# Altium schematic symbol library Antenna.SCHLIB: 130 symbols (part 1 of 4)
Pins are listed as number, name and electrical type; pins without a type are passive.

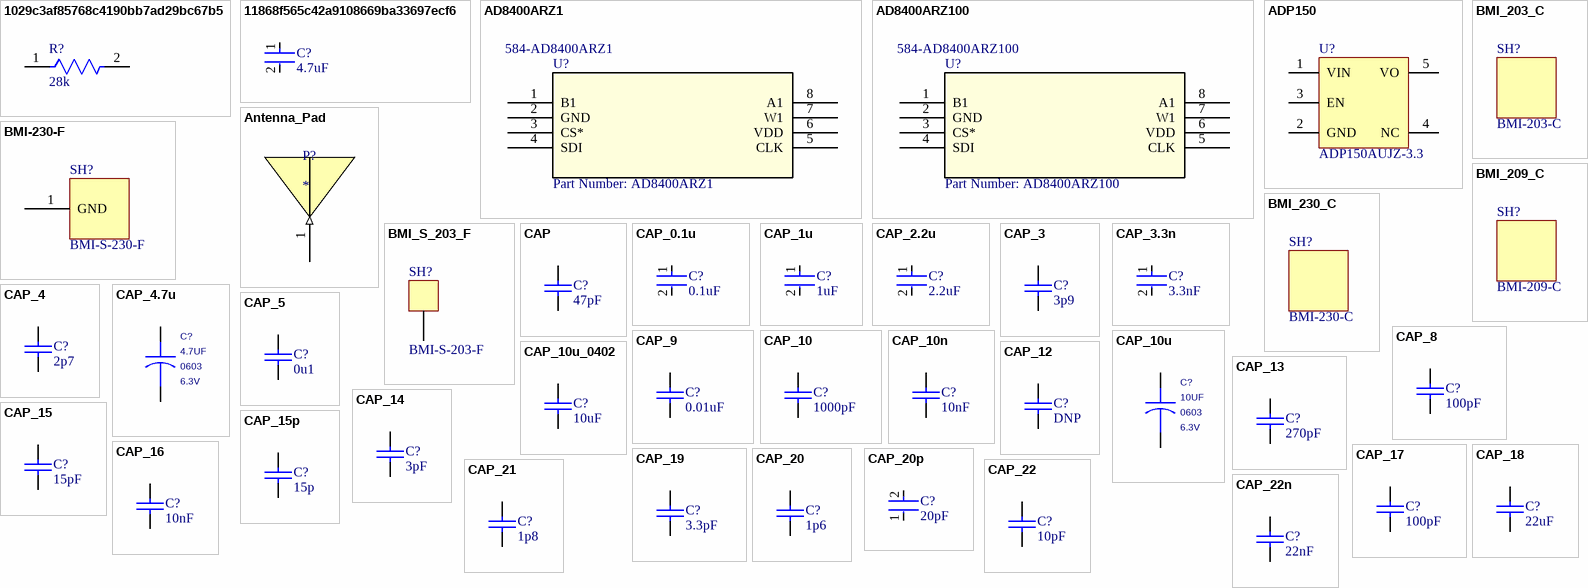
[diagram p0: symbols 1029c3af85768c4190bb7ad29bc67b5 to CAP_22n]

## 1029c3af85768c4190bb7ad29bc67b5
designator R?, comment 28k
RES SMD 28K OHM 1% 1/16W 0402; Manufacturer: Yageo; Manufacturer Part Number: AC0402FR-0728KL; Resistance: 28KΩ; Tolerance: 0.01; Voltage Rating: 50V; Power Rating: 0.0625W; Automotive Grade: Grade 0; Value: 28KΩ; Package: AC0402; RoHS: TRUE; Device Class L2: Resistors; ComponentLink2URL: http://www.yageo.com/documents/recent/PYu-AC_51_RoHS_L_6.pdf; Device Class L3: Chip SMD Resistors; Category: Res; Mouser Description: Res Thick Film 0402 28K Ohm 1% 0.063W(1/16W) ±100ppm/C Epoxy Pad SMD Automotive T/R; Digikey Description: RES SMD 28K OHM 1% 1/16W 0402; Automotive: Yes; Temperature Range High: +155°C; Lead Free: Yes; Composition: Thick Film; Temperature Range Low: -55°C; Footprint Url: http://www.yageo.com/exep/pages/download/literatures/PYu-R_Mount_10.pdf; Temperature: -55°C to +155°C; Series: AC; Ipc Land Pattern Name: RESC10050X32; ComponentLink2Description: Datasheet; Height: 0.37mm; Octopart: https://octopart.com/ac0402fr-0728kl-yageo-60760506; Device Class L1: Passive Components; Supplier 1: Mouser; Supplier Part Number 1: 603-AC0402FR-0728KL
footprint FP-AC0402-MFG
footprint FP-AC0402-IPC_C
footprint FP-AC0402-IPC_B
footprint FP-AC0402-IPC_A
footprint 0402_RES
pins: 1, 2

## 11868f565c42a9108669ba33697ecf6
designator C?, comment 4.7uF
Chip Multilayer Ceramic Capacitors for General Purpose, 0402, 4.7uF, X5R, 15%, 20%, 6.3V; Height: 0.5mm; Weight: 0.000212oz; Length: 1mm; Case Code (Metric): 1005; Packaging: Tape and Reel; Termination: SMD/SMT; Dielectric: X5R; Depth: 0.5mm; Case Code (Imperial): 0402; Min Operating Temperature: -55°C; Case/Package: 0402; Voltage: 6.3V; Width: 0.02inch; Capacitance: 4.7uF; Lead Free: Lead Free; Thickness: 0.022inch; Contact Plating: Tin; REACH SVHC: No SVHC; Package Quantity: 10000; Tolerance: 20%; Voltage Rating (DC): 6.3V; Voltage Rating: 6.3V; Mount: Surface Mount; Max Operating Temperature: 85°C; Supplier 1: Digi-Key; Supplier Part Number 1: 490-5915-1-ND
footprint FP-GRM155-0_1-IPC_B
footprint FP-GRM155-0_1-IPC_A
footprint FP-GRM155-0_1-IPC_C
footprint FP-GRM155-0_1-MFG
footprint 0402_cap
pins: 1, 2

## AD8400ARZ1
designator U?, comment Part Number: AD8400ARZ1  Supplier Part Number 1: 584-AD8400ARZ1
Digital Potentiometer 256POS 1kOhm Single 8-Pin SOIC N Tube; Manufacturer: Analog Devices; Vendor: Analog Devices Inc; Built_By: EMA_UL_Team; Memory Type: Volatile; Number of Positions: 256; Resistance: 1kR; Temperature Coefficient: 500ppm/°C; Quiescent Current: 10nA; Number of Circuits: 1; Max Supply Current: 900uA; Operating Supply Voltage: 5.5V; Tolerance: 1%; Min Supply Voltage: 2.7V; Interface: SPI; -3db Bandwidth: 5MHz; Manufacturer_Part_Number: AD8400ARZ1; Copyright: Copyright (C) 2018 Accelerated Designs. All rights reserved; RefDes: RefDes; Type: DEV; Value: Value; Manufacturer Part Number: AD8400ARZ1; RoHS: Yes; Category: Amplifiers - Op Amps, Buffer, Instrumentation; Stock 1: 4071; Pricing 1: 1=3.31000, 10=2.97500, 25=2.81240, 100=2.31250, 250=2.07500, 500=2.00000, 1000=1.68750 (USD); Mount: Surface Mount; Case/Package: SOIC; Number of Pins: 8; Contact Plating: Tin,Matte; Min Operating Temperature: -40°C; Max Operating Temperature: 125°C; Taper: Pseudo-Logarithmic; Number of Taps: 256; Operating Supply Current: 10nA; Number of Elements: 1; Max Supply Voltage: 5.5V; Packaging: Rail/Tube; Package Quantity: 98; Nominal Supply Current: 10nA; Length: 5mm; Height: 1.5mm; Width: 4mm; Radiation Hardening: No; Lead Free: Contains Lead; REACH SVHC: No SVHC; ComponentLink1URL: https://datasheet.ciiva.com/19454/1792679-19454749.pdf?src-supplier=Jameco; ComponentLink1Description: https://datasheet.ciiva.com/19454/1792679-19454749.pdf?src-supplier=Jameco; ComponentLink2URL: https://datasheet.ciiva.com/26801/ad8400arz1-26801995.pdf?src-supplier=IIIC; ComponentLink2Description: https://datasheet.ciiva.com/26801/ad8400arz1-26801995.pdf?src-supplier=IIIC; ComponentLink3URL: https://datasheet.ciiva.com/1146/85382-1146564.pdf?src-supplier=Element14; ComponentLink3Description: https://datasheet.ciiva.com/1146/85382-1146564.pdf?src-supplier=Element14; ComponentLink4URL: https://datasheet.ciiva.com/3045/ad8400-8402-8403-3045396.pdf?src-supplier=Avnet; ComponentLink4Description: https://datasheet.ciiva.com/3045/ad8400-8402-8403-3045396.pdf?src-supplier=Avnet; ComponentLink5URL: https://datasheet.ciiva.com/15145/getdatasheetpartid-75432-15145685.pdf?src-supplier=Verical; ComponentLink5Description: https://datasheet.ciiva.com/15145/getdatasheetpartid-75432-15145685.pdf?src-supplier=Verical; ComponentLink6URL: https://datasheet.ciiva.com/1145/661726-1145671.pdf?src-supplier=Element14; ComponentLink6Description: https://datasheet.ciiva.com/1145/661726-1145671.pdf?src-supplier=Element14; ComponentLink7URL: https://datasheet.ciiva.com/1330/ad8400-8402-8403-1330761.pdf?src-supplier=Digi-Key; ComponentLink7Description: https://datasheet.ciiva.com/1330/ad8400-8402-8403-1330761.pdf?src-supplier=Digi-Key; ComponentLink8URL: https://datasheet.ciiva.com/25918/ad8400-8402-8403-25918527.pdf?src-supplier=Avnet+Europe; ComponentLink8Description: https://datasheet.ciiva.com/25918/ad8400-8402-8403-25918527.pdf?src-supplier=Avnet+Europe; Supplier 1: Mouser
footprint R_8
footprint AD8400_ACTUAL
pins: 1 B1, 2 GND, 3 CS*, 4 SDI, 5 CLK, 6 VDD (power), 7 W1, 8 A1

## AD8400ARZ100
designator U?, comment Part Number: AD8400ARZ100  Supplier Part Number 1: 584-AD8400ARZ100
No Description Available; Vendor: Analog Devices Inc; Built_By: EMA_UL_Team; Manufacturer Part Number: AD8400ARZ100; Copyright: Copyright (C) 2018 Accelerated Designs. All rights reserved; RefDes: RefDes; Type: DEV; Value: Value; Supplier 1: Mouser
footprint R_8
footprint AD8400_ACTUAL
pins: 1 B1, 2 GND, 3 CS*, 4 SDI, 5 CLK, 6 VDD (power), 7 W1, 8 A1

## ADP150
designator U?, comment ADP150AUJZ-3.3
ANALOG DEVICES - ADP150AUJZ-3.3-R7 - LDO VOLTAGE REGULATOR, 3.3V, 150mA, TSOT-5, FULL REEL; Max Input Voltage: 5.5V; Min Input Voltage: 2.2V; Number of Outputs: 1; Output Type: Fixed; Polarity: Positive; Accuracy: 1%; Dropout Voltage: 105mV; Operating Supply Current: 10uA; Power Supply Rejection Ratio (PSRR): 70dB; Max Supply Current: 320uA; Min Current Limit: 190mA; Supplier 1: Digi-Key; Supplier Part Number 1: ADP150AUJZ-3.3-R7CT-ND; Manufacturer: Analog Devices; Manufacturer Part Number: ADP150AUJZ-3.3-R7; RoHS: Yes; Category: Voltage Regulators - Linear; Stock 1: 9998; Pricing 1: 1=1.06000, 10=0.94400, 25=0.89600, 100=0.68800, 250=0.60800, 500=0.57600, 1000=0.44800 (USD); Case/Package: TSOT; Number of Pins: 5; Min Operating Temperature: -40°C; Max Operating Temperature: 125°C; Max Output Current: 150mA; Output Voltage: 3.3V; Packaging: Tape and Reel; Nominal Output Voltage: 3.3V; Output Current: 150mA; Number of Regulators: 1; Quiescent Current: 10uA; Nominal Supply Current: 10uA; Output Voltage Accuracy: 1%; Length: 2.9mm; Height: 0.9mm; Width: 1.6mm; REACH SVHC: No SVHC; Lead Free: Contains Lead; ComponentLink1URL: https://datasheet.ciiva.com/2040/adp150-2040608.pdf?src-supplier=Digi-Key; ComponentLink1Description: https://datasheet.ciiva.com/2040/adp150-2040608.pdf?src-supplier=Digi-Key; ComponentLink2URL: https://datasheet.ciiva.com/2040/adp150-2040609.pdf?src-supplier=Digi-Key; ComponentLink2Description: https://datasheet.ciiva.com/2040/adp150-2040609.pdf?src-supplier=Digi-Key; ComponentLink3URL: https://datasheet.ciiva.com/3223/adp150-3223365.pdf?src-supplier=Avnet; ComponentLink3Description: https://datasheet.ciiva.com/3223/adp150-3223365.pdf?src-supplier=Avnet; ComponentLink4URL: https://datasheet.ciiva.com/17365/adp150-17365622.pdf?src-supplier=Avnet+Europe; ComponentLink4Description: https://datasheet.ciiva.com/17365/adp150-17365622.pdf?src-supplier=Avnet+Europe; ComponentLink5URL: https://datasheet.ciiva.com/2040/adp150-2040607.pdf?src-supplier=Digi-Key; ComponentLink5Description: https://datasheet.ciiva.com/2040/adp150-2040607.pdf?src-supplier=Digi-Key; ComponentLink6URL: https://datasheet.ciiva.com/7993/1780757-7993591.pdf?src-supplier=Element14; ComponentLink6Description: https://datasheet.ciiva.com/7993/1780757-7993591.pdf?src-supplier=Element14; ComponentLink7URL: https://datasheet.ciiva.com/3224/adp150-3224652.pdf?src-supplier=Avnet; ComponentLink7Description: https://datasheet.ciiva.com/3224/adp150-3224652.pdf?src-supplier=Avnet
footprint SOT23-5
pins: 1 VIN, 2 GND, 3 EN, 4 NC, 5 VO

## Antenna_Pad
designator P?  (no BOM)
footprint Antenna_Pad (Pad for Tape Measure antenna)
pins: 1 (in)

## BMI-230-F
designator SH?, comment BMI-S-230-F
Manufacturer Part Number: BMI-S-230-F-R; Supplier 1: Digi-Key; Supplier Part Number 1: 903-1470-1-ND
footprint BMI-204-F
footprint BMI-206-F
footprint BMI-230-F
pins: 1 GND

## BMI_203_C
designator SH?, comment BMI-203-C  (mechanical)
Manufacturer Part Number: BMI-S-203-C; Supplier 1: Digi-Key; Supplier Part Number 1: 903-1015-ND

## BMI_209_C
designator SH?, comment BMI-209-C  (mechanical)
Manufacturer Part Number: BMI-S-209-C; Supplier 1: Digi-Key; Supplier Part Number 1: 903-1185-ND

## BMI_230_C
designator SH?, comment BMI-230-C  (mechanical)
Manufacturer Part Number: BMI-S-206-C; Supplier 1: Digi-Key; Supplier Part Number 1: 903-1471-ND

## BMI_S_203_F
designator SH?, comment BMI-S-203-F
BOARD SHIELD 1.032X1.032" FRAME; Manufacturer: Laird; Supplier 1: Digi-Key; Manufacturer Part Number: BMI-S-203-F; RoHS: Yes; Category: Enclosures; Stock 1: 56808; Pricing 1: 1=2.39000, 10=2.14800, 25=2.02680, 100=1.72690 (USD); Mount: Solder; Material: Aluminium; Color: Grey; Package Quantity: 300; Packaging: Tape and Reel; Length: 1.032inch; Width: 26.21mm; Depth: 5.08mm; REACH SVHC: Unknown; ComponentLink1URL: https://datasheet.ciiva.com/2799/bmi-s-203-2799346.pdf?src-supplier=Digi-Key; ComponentLink1Description: https://datasheet.ciiva.com/2799/bmi-s-203-2799346.pdf?src-supplier=Digi-Key; Supplier Part Number 1: 903-1052-1-ND
footprint BMI-S-103
pins: 1

## CAP
designator C?, comment 47pF
TAIYO YUDEN - UMK105CG470JV-F - CERAMIC CAPACITOR 47PF 50V, C0G, 5%, 0402; Supplier 1: Digi-Key; Supplier Part Number 1: 587-1207-1-ND; Manufacturer: Taiyo Yuden; Manufacturer Part Number: UMK105CG470JV-F; RoHS: Yes; Category: Ceramic Capacitors; Stock 1: 26596; Pricing 1: 1=0.10000, 10=0.04200, 100=0.01860, 500=0.01328, 1000=0.01044, 2500=0.00949, 5000=0.00873 (USD); Mount: Surface Mount; Case/Package: 0402; Number of Pins: 2; Case Code (Metric): 1005; Case Code (Imperial): 0402; Min Operating Temperature: -55°C; Max Operating Temperature: 125°C; Dielectric: C0G; Capacitance: 47pF; Tolerance: 5%; Packaging: Tape and Reel; Voltage Rating (DC): 50V; Termination: SMD/SMT; Package Quantity: 1; Voltage Rating: 50V; Length: 1mm; Height: 0.5mm; Width: 0.02inch; Thickness: 0.022inch; Depth: 0.5mm; Radiation Hardening: No; Lead Free: Lead Free; Halogen Free: Halogen Free; REACH SVHC: Unknown; ComponentLink1URL: https://datasheet.ciiva.com/129/standardmultilayerceramiccaps-129737.pdf?src-supplier=Digi-Key; ComponentLink1Description: https://datasheet.ciiva.com/129/standardmultilayerceramiccaps-129737.pdf?src-supplier=Digi-Key; ComponentLink2URL: https://datasheet.ciiva.com/129/standardmultilayerceramiccaps-129735.pdf?src-supplier=Digi-Key; ComponentLink2Description: https://datasheet.ciiva.com/129/standardmultilayerceramiccaps-129735.pdf?src-supplier=Digi-Key; ComponentLink3URL: https://datasheet.ciiva.com/129/standardmultilayerceramiccaps-129736.pdf?src-supplier=Digi-Key; ComponentLink3Description: https://datasheet.ciiva.com/129/standardmultilayerceramiccaps-129736.pdf?src-supplier=Digi-Key; ComponentLink4URL: https://datasheet.ciiva.com/15922/dumk-e-15922569.pdf?src-supplier=Onlinecomponents.com; ComponentLink4Description: https://datasheet.ciiva.com/15922/dumk-e-15922569.pdf?src-supplier=Onlinecomponents.com
footprint C0402
pins: 1, 2
2 alternate drawings of the same symbol

## CAP_0.1u
designator C?, comment 0.1uF
CAP CER 0.1UF 10V X5R 0402; Manufacturer: Kemet; Manufacturer Part Number: C0402C104K8PACTU; Material: Ceramic; Capacitance: 0.10 μF; Temperature Coefficient: 15%; Tolerance: 0.1; Value: 0.10 μF; Package: C0402-BB; Temperature: -55°C to +125°C; ComponentLink2Description: Datasheet; Temperature Characteristic: X5R; Device Class L1: Passive Components; Height: 0.55mm; Lead Free: Yes; ComponentLink2URL: https://content.kemet.com/datasheets/KEM_C1002_X7R_SMD.pdf; Device Class L2: Capacitors; Temperature Range Low: -55°C; Temperature Range High: +125°C; RoHS: TRUE; Octopart: https://octopart.com/c0402c104k8pactu-kemet-140039; Automotive: No; Mouser Description: Capacitor 100 nF 10 VDC 0402; Category: Cap; Voltage Rating: 10 V; Digikey Description: CAP CER 0.1UF 10V X5R 0402; Ipc Land Pattern Name: CAPC10050X50; Device Class L3: Ceramic Capacitors; Supplier 1: Digi-Key; Supplier Part Number 1: 490-3261-1-ND
footprint FP-C0402-BB-MFG
footprint FP-C0402-BB-IPC_C
footprint FP-C0402-BB-IPC_B
footprint FP-C0402-BB-IPC_A
footprint 0402_cap
footprint 0402_cap
footprint 0402_CAP
pins: 1, 2

## CAP_1u
designator C?, comment 1uF
CAP CER 1UF 10V X5R 0402; Manufacturer Part Number: CC0402KRX5R5BB105; ComponentLink2Description: Datasheet; ComponentLink2URL: https://search.murata.co.jp/Ceramy/image/img/A01X/G101/ENG/GRM155R61A105KE15-01A.pdf; Supplier 1: Digi-Key; Supplier Part Number 1: 311-1438-1-ND
footprint FP-GRM15-0_1-MFG
footprint FP-GRM15-0_1-IPC_C
footprint FP-GRM15-0_1-IPC_B
footprint FP-GRM15-0_1-IPC_A
footprint 0402_cap
pins: 1, 2

## CAP_2.2u
designator C?, comment 2.2uF
Chip Multilayer Ceramic Capacitors for General Purpose, 0603, 2.2uF, X7R, 15%, 10%, 10V; Manufacturer Part Number: GRM188R71A225KE15D; Case Code (Metric): 1608; Height: 0.8mm; Packaging: Cut Tape; Voltage: 10V; Lead Free: Lead Free; Min Operating Temperature: -55°C; Voltage Rating (DC): 10V; Max Operating Temperature: 125°C; Voltage Rating: 10V; Dielectric: X7R; Depth: 0.8mm; Case Code (Imperial): 0603; Termination: SMD/SMT; Case/Package: 0603; Number of Pins: 2; REACH SVHC: No SVHC; Mount: Surface Mount; Width: 0.031inch; Material: Ceramic; Capacitance: 2.2uF; Package Quantity: 1; Weight: 7.1E-05oz; Length: 1.6mm; Thickness: 0.035inch; Tolerance: 10%; Supplier 1: Digi-Key; Supplier Part Number 1: 490-4520-1-ND
footprint FP-GRM188-0_1-e0_2_0_5-MFG
footprint FP-GRM188-0_1-e0_2_0_5-IPC_B
footprint FP-GRM188-0_1-e0_2_0_5-IPC_A
footprint FP-GRM188-0_1-e0_2_0_5-IPC_C
footprint 0402_cap
footprint 0603_cap
pins: 1, 2

## CAP_3
designator C?, comment 3p9
CAP CER 3.9PF 50V C0H 0402; Manufacturer: Taiyo Yuden; Manufacturer Part Number: UVK105CH3R9JW-F; Dielectric Material: Ceramic; Tolerance: 5%; Supplier 1: Digi-Key; Supplier Part Number 1: 587-1021-1-ND; RoHS: Yes; Category: Ceramic Capacitors; Stock 1: 9960; Pricing 1: 1=0.21000, 10=0.14200, 100=0.07210, 500=0.04934, 1000=0.04364, 2500=0.04174, 5000=0.03795 (USD); Mount: Surface Mount; Case/Package: 0402; Number of Pins: 2; Case Code (Metric): 1005; Case Code (Imperial): 0402; Contact Plating: Tin; Min Operating Temperature: -55°C; Max Operating Temperature: 125°C; Voltage Rating: 50V; Capacitance: 3.9pF; Packaging: Tape and Reel; Package Quantity: 1; Voltage Rating (DC): 50V; Dielectric: C0H; Termination: SMD/SMT; Composition: Ceramic; Length: 1mm; Height: 0.5mm; Width: 0.02inch; Thickness: 0.022inch; Depth: 0.5mm; Radiation Hardening: No; REACH SVHC: Unknown; Lead Free: Lead Free; Halogen Free: Halogen Free; ComponentLink1URL: https://datasheet.ciiva.com/11597/uvk105ch3r9jw-f-ss-11597603.pdf?src-supplier=Avnet; ComponentLink1Description: https://datasheet.ciiva.com/11597/uvk105ch3r9jw-f-ss-11597603.pdf?src-supplier=Avnet; ComponentLink2URL: https://datasheet.ciiva.com/134/uvk105ch3r9jw-f-ss-134635.pdf?src-supplier=Digi-Key; ComponentLink2Description: https://datasheet.ciiva.com/134/uvk105ch3r9jw-f-ss-134635.pdf?src-supplier=Digi-Key; ComponentLink3URL: https://datasheet.ciiva.com/30211/206uvk105ch3r9jw-f-30211801.pdf?src-supplier=Onlinecomponents.com; ComponentLink3Description: https://datasheet.ciiva.com/30211/206uvk105ch3r9jw-f-30211801.pdf?src-supplier=Onlinecomponents.com; ComponentLink4URL: https://datasheet.ciiva.com/7975/746258-7975913.pdf?src-supplier=Element14; ComponentLink4Description: https://datasheet.ciiva.com/7975/746258-7975913.pdf?src-supplier=Element14; ComponentLink5URL: https://datasheet.ciiva.com/5424/mlcc-all-e-541559-5424603.pdf?src-supplier=Mouser; ComponentLink5Description: https://datasheet.ciiva.com/5424/mlcc-all-e-541559-5424603.pdf?src-supplier=Mouser; ComponentLink6URL: https://datasheet.ciiva.com/134/mlcc04-e-134636.pdf?src-supplier=Digi-Key; ComponentLink6Description: https://datasheet.ciiva.com/134/mlcc04-e-134636.pdf?src-supplier=Digi-Key; ComponentLink7URL: https://datasheet.ciiva.com/134/mlcc04-e-134637.pdf?src-supplier=Digi-Key; ComponentLink7Description: https://datasheet.ciiva.com/134/mlcc04-e-134637.pdf?src-supplier=Digi-Key
footprint C0402
pins: 1, 2
2 alternate drawings of the same symbol

## CAP_3.3n
designator C?, comment 3.3nF
CAP CER 0.027UF 10V X5R 0402; Manufacturer Part Number: GRM1885C1H332JA01D; ComponentLink2Description: Datasheet; ComponentLink2URL: https://content.kemet.com/datasheets/KEM_C1002_X7R_SMD.pdf; Supplier 1: Newark; Supplier Part Number 1: 45Y5231
footprint FP-C0402-BB-MFG
footprint FP-C0402-BB-IPC_C
footprint FP-C0402-BB-IPC_B
footprint FP-C0402-BB-IPC_A
footprint C0402C273K8PACTU
footprint 0603_cap
pins: 1, 2

## CAP_4
designator C?, comment 2p7
Multilayer Ceramic Capacitors MLCC - SMD/SMT 2.7pF 50V C0H +/-5f 0402 HiFreq; Manufacturer: Taiyo Yuden; Manufacturer Part Number: UVK105CH2R7JW-F; Tolerance: 5%; Supplier 1: Digi-Key; Supplier Part Number 1: 587-1017-1-ND; RoHS: Yes; Category: Ceramic Capacitors; Stock 1: 39317; Pricing 1: 1=0.21000, 10=0.14200, 100=0.07210, 500=0.04934, 1000=0.04364, 2500=0.04174, 5000=0.03795 (USD); Mount: Surface Mount; Case/Package: 0402; Number of Pins: 2; Case Code (Metric): 1005; Case Code (Imperial): 0402; Dielectric Material: Ceramic; Min Operating Temperature: -55°C; Max Operating Temperature: 125°C; Dielectric: C0H; Capacitance: 2.7pF; Package Quantity: 1; Voltage Rating: 50V; Packaging: Tape and Reel; Voltage Rating (DC): 50V; Termination: SMD/SMT; Composition: Ceramic; Length: 1mm; Height: 0.5mm; Width: 0.02inch; Thickness: 0.022inch; Depth: 0.5mm; Radiation Hardening: No; Lead Free: Lead Free; Halogen Free: Halogen Free; REACH SVHC: Unknown; ComponentLink1URL: https://datasheet.ciiva.com/134/uvk105ch2r7jw-f-ss-134626.pdf?src-supplier=Digi-Key; ComponentLink1Description: https://datasheet.ciiva.com/134/uvk105ch2r7jw-f-ss-134626.pdf?src-supplier=Digi-Key; ComponentLink2URL: https://datasheet.ciiva.com/134/mlcc04-e-134627.pdf?src-supplier=Digi-Key; ComponentLink2Description: https://datasheet.ciiva.com/134/mlcc04-e-134627.pdf?src-supplier=Digi-Key; ComponentLink3URL: https://datasheet.ciiva.com/134/mlcc04-e-134628.pdf?src-supplier=Digi-Key; ComponentLink3Description: https://datasheet.ciiva.com/134/mlcc04-e-134628.pdf?src-supplier=Digi-Key; ComponentLink4URL: https://datasheet.ciiva.com/7975/746258-7975912.pdf?src-supplier=Element14; ComponentLink4Description: https://datasheet.ciiva.com/7975/746258-7975912.pdf?src-supplier=Element14; ComponentLink5URL: https://datasheet.ciiva.com/5412/mlcc-all-e-541559-5412284.pdf?src-supplier=Mouser; ComponentLink5Description: https://datasheet.ciiva.com/5412/mlcc-all-e-541559-5412284.pdf?src-supplier=Mouser
footprint C0402
pins: 1, 2
2 alternate drawings of the same symbol

## CAP_4.7u
designator C?, comment 4.7UF  Attr: 6.3V  Package: 0603
CAP,CER,4.7UF,6.3V,X5R,20%,0603; Manufacturer Part Number: JMK107BJ475MA-T; Mfg: TAIYO YUDEN; Part Number: 725-47-534; Supplier 1: Digi-Key; Supplier Part Number 1: 587-1255-1-ND
footprint C0603
footprint C0603
pins: 1, 2

## CAP_5
designator C?, comment 0u1
TAIYO YUDEN - EMK105B7104KV-F - SMD Multilayer Ceramic Capacitor, 0.1 µF, 16 V, 0402 [1005 Metric], ± 10%, X7R, M Series; Capacitance: 100nF; Voltage Rating (DC): 16V; Supplier 1: Future Electronics; Supplier Part Number 1: EMK105B7104KV-F-CUTT; Manufacturer: Taiyo Yuden; Manufacturer Part Number: EMK105B7104KV-F; RoHS: Yes; Category: Ceramic Capacitors; Stock 1: 2305000; Pricing 1: 1=0.09800, 500=0.01390, 1500=0.00980, 2500=0.00830, 5000=0.00670 (USD); Mount: Surface Mount; Case/Package: 0402; Number of Pins: 2; Case Code (Metric): 1005; Case Code (Imperial): 0402; Min Operating Temperature: -55°C; Max Operating Temperature: 125°C; Tolerance: 10%; Packaging: Tape and Reel; Dielectric: X7R; Package Quantity: 1; Voltage Rating: 16V; Termination: SMD/SMT; Composition: Ceramic; Length: 1mm; Height: 0.5mm; Width: 0.02inch; Thickness: 0.022inch; Depth: 0.5mm; Radiation Hardening: No; Halogen Free: Halogen Free; REACH SVHC: Unknown; Lead Free: Lead Free; ComponentLink1URL: https://datasheet.ciiva.com/129/emk105b7104kv-f-ss-129714.pdf?src-supplier=Digi-Key; ComponentLink1Description: https://datasheet.ciiva.com/129/emk105b7104kv-f-ss-129714.pdf?src-supplier=Digi-Key; ComponentLink2URL: https://datasheet.ciiva.com/30227/emk105b7104kv-f-30227394.pdf?src-supplier=Onlinecomponents.com; ComponentLink2Description: https://datasheet.ciiva.com/30227/emk105b7104kv-f-30227394.pdf?src-supplier=Onlinecomponents.com; ComponentLink3URL: https://datasheet.ciiva.com/22748/746258-22748959.pdf?src-supplier=Element14; ComponentLink3Description: https://datasheet.ciiva.com/22748/746258-22748959.pdf?src-supplier=Element14
footprint C0402
pins: 1, 2
2 alternate drawings of the same symbol

## CAP_8
designator C?, comment 100pF
MURATA - GCM1555C1H101JA16D - SMD Multilayer Ceramic Capacitor, 100 pF, 50 V, 0402 [1005 Metric], ± 5%, C0G / NP0, GCM Series - SMD Multilayer Ceramic Capacitor, 100 pF, 50 V, 0402 [1005 Metric], ± 5%, C0G / NP0, GCM Series; Voltage Rating: 50V; Supplier 1: Digi-Key; Supplier Part Number 1: 490-10669-1-ND; Manufacturer: Murata; Manufacturer Part Number: GCM1555C1H101JA16D; RoHS: Yes; Category: Ceramic Capacitors; Stock 1: 1663126; Pricing 1: 1=0.10000, 10=0.06200, 100=0.02770, 500=0.01978, 1000=0.01553, 2500=0.01412, 5000=0.01299 (USD); Mount: Surface Mount; Case/Package: 0402; Weight: 0.000212oz; Case Code (Metric): 1005; Case Code (Imperial): 0402; Min Operating Temperature: -55°C; Max Operating Temperature: 125°C; Tolerance: 5%; Capacitance: 100pF; Packaging: Tape and Reel; Dielectric: C0G; Voltage: 50V; Termination: SMD/SMT; Voltage Rating (DC): 50V; Package Quantity: 10000; Length: 1mm; Height: 0.5mm; Width: 0.02inch; Thickness: 0.022inch; Depth: 0.5mm; Ratings: AEC-Q200; Radiation Hardening: No; REACH SVHC: No SVHC; Lead Free: Lead Free; ComponentLink1URL: https://datasheet.ciiva.com/26889/getdatasheetpartid-748988-26889122.pdf?src-supplier=Verical; ComponentLink1Description: https://datasheet.ciiva.com/26889/getdatasheetpartid-748988-26889122.pdf?src-supplier=Verical
footprint C0402
pins: 1, 2
2 alternate drawings of the same symbol

## CAP_9
designator C?, comment 0.01uF
Cap Ceramic 0.01uF 50V X7R 10% SMD 0402 125C Paper T/R; Manufacturer: Murata; Manufacturer Part Number: GCM155R71H103KA55D; Capacitance: 10nF; Supplier 1: Digi-Key; Supplier Part Number 1: 490-4762-1-ND; RoHS: Yes; Category: Ceramic Capacitors; Stock 1: 21462435; Pricing 1: 1=0.10000, 10=0.04400, 100=0.01980, 500=0.01412, 1000=0.01109, 2500=0.01008, 5000=0.00927 (USD); Mount: Surface Mount; Case/Package: 0402; Case Code (Imperial): 0402; Case Code (Metric): 1005; Min Operating Temperature: -55°C; Max Operating Temperature: 125°C; Tolerance: 10%; Dielectric: X7R; Voltage Rating: 50V; Packaging: Tape and Reel; Package Quantity: 1; Termination: SMD/SMT; Voltage: 50V; Voltage Rating (DC): 50V; Length: 1mm; Height: 0.5mm; Width: 0.02inch; Thickness: 0.022inch; Depth: 0.5mm; Ratings: AEC-Q200; Radiation Hardening: No; REACH SVHC: No SVHC; Lead Free: Lead Free; ComponentLink1URL: https://datasheet.ciiva.com/16199/product-16199584.pdf?src-supplier=Future+Electronics; ComponentLink1Description: https://datasheet.ciiva.com/16199/product-16199584.pdf?src-supplier=Future+Electronics; ComponentLink2URL: https://datasheet.ciiva.com/18100/getdatasheetpartid-27433-18100656.pdf?src-supplier=Verical; ComponentLink2Description: https://datasheet.ciiva.com/18100/getdatasheetpartid-27433-18100656.pdf?src-supplier=Verical; ComponentLink3URL: https://datasheet.ciiva.com/130/product-130682.pdf?src-supplier=Digi-Key; ComponentLink3Description: https://datasheet.ciiva.com/130/product-130682.pdf?src-supplier=Digi-Key; ComponentLink4URL: https://datasheet.ciiva.com/11787/0900766b80ef92d0-11787082.pdf?src-supplier=RSComponents; ComponentLink4Description: https://datasheet.ciiva.com/11787/0900766b80ef92d0-11787082.pdf?src-supplier=RSComponents; ComponentLink5URL: https://datasheet.ciiva.com/130/product-130683.pdf?src-supplier=Digi-Key; ComponentLink5Description: https://datasheet.ciiva.com/130/product-130683.pdf?src-supplier=Digi-Key; ComponentLink6URL: https://datasheet.ciiva.com/130/product-130684.pdf?src-supplier=Digi-Key; ComponentLink6Description: https://datasheet.ciiva.com/130/product-130684.pdf?src-supplier=Digi-Key; ComponentLink7URL: https://datasheet.ciiva.com/2989/product-2989235.pdf?src-supplier=Avnet; ComponentLink7Description: https://datasheet.ciiva.com/2989/product-2989235.pdf?src-supplier=Avnet; ComponentLink8URL: https://datasheet.ciiva.com/16624/product-16624550.pdf?src-supplier=Avnet+Europe; ComponentLink8Description: https://datasheet.ciiva.com/16624/product-16624550.pdf?src-supplier=Avnet+Europe
footprint C0402
pins: 1, 2
2 alternate drawings of the same symbol

## CAP_10
designator C?, comment 1000pF
CAP CER 1000PF 50V C0G/NP0 0402; Manufacturer: Murata; Manufacturer Part Number: GCM1555C1H102JA16J; Capacitance: 1nF; Tolerance: 5%; Supplier 1: Mouser; Supplier Part Number 1: 81-GCM1555C1H102JA6J; RoHS: No; Category: Ceramic Capacitors; Stock 1: 1197797; Pricing 1: 1=0.10000, 10=0.07700, 100=0.03300, 500=0.02400, 1000=0.01900, 2500=0.01700 (USD); Mount: Surface Mount; Case/Package: 0402; Min Operating Temperature: -55°C; Max Operating Temperature: 125°C; Packaging: Tape and Reel; Voltage Rating: 50V; Ratings: AEC-Q200; ComponentLink1URL: http://search.murata.co.jp/Ceramy/image/img/A01X/G101/ENG/GCM1555C1H102JA16-01.pdf?src-supplier=Digi-Key; ComponentLink1Description: http://search.murata.co.jp/Ceramy/image/img/A01X/G101/ENG/GCM1555C1H102JA16-01.pdf?src-supplier=Digi-Key
footprint C0402
pins: 1, 2
2 alternate drawings of the same symbol

## CAP_10n
designator C?, comment 10nF
TAIYO YUDEN   EMK105B7103KV-F   CERAMIC CAPACITOR, 0.01UF, 16V, X7R, 10%, 0402, FULL REEL; Supplier 1: Digi-Key; Supplier Part Number 1: 587-2708-1-ND; Manufacturer: Taiyo Yuden; Manufacturer Part Number: EMK105B7103KV-F; RoHS: Yes; Category: Ceramic Capacitors; Stock 1: 251774; Pricing 1: 1=0.10000, 10=0.02800, 100=0.01240, 500=0.00886, 1000=0.00696, 2500=0.00632, 5000=0.00582 (USD); Mount: Surface Mount; Case/Package: 0402; Number of Pins: 2; Case Code (Metric): 1005; Case Code (Imperial): 0402; Contact Plating: Tin; Min Operating Temperature: -55°C; Max Operating Temperature: 125°C; Package Quantity: 1; Capacitance: 10nF; Voltage Rating: 16V; Tolerance: 10%; Packaging: Tape and Reel; Voltage Rating (DC): 16V; Termination: SMD/SMT; Composition: Ceramic; Dielectric: X7R; Length: 1mm; Height: 0.5mm; Width: 0.02inch; Thickness: 0.022inch; Depth: 0.5mm; Radiation Hardening: No; REACH SVHC: Unknown; ComponentLink1URL: https://datasheet.ciiva.com/156/mlcc-all-e-156079.pdf?src-supplier=Digi-Key; ComponentLink1Description: https://datasheet.ciiva.com/156/mlcc-all-e-156079.pdf?src-supplier=Digi-Key; ComponentLink2URL: https://datasheet.ciiva.com/28644/746258-28644943.pdf?src-supplier=Element14; ComponentLink2Description: https://datasheet.ciiva.com/28644/746258-28644943.pdf?src-supplier=Element14; ComponentLink3URL: https://datasheet.ciiva.com/156/mlcc-all-e-156080.pdf?src-supplier=Digi-Key; ComponentLink3Description: https://datasheet.ciiva.com/156/mlcc-all-e-156080.pdf?src-supplier=Digi-Key; ComponentLink4URL: https://datasheet.ciiva.com/11596/mlcc01-e-11596553.pdf?src-supplier=Avnet; ComponentLink4Description: https://datasheet.ciiva.com/11596/mlcc01-e-11596553.pdf?src-supplier=Avnet; ComponentLink5URL: https://datasheet.ciiva.com/7975/1481447-7975594.pdf?src-supplier=Element14; ComponentLink5Description: https://datasheet.ciiva.com/7975/1481447-7975594.pdf?src-supplier=Element14; ComponentLink6URL: https://datasheet.ciiva.com/156/mlcc-all-e-156078.pdf?src-supplier=Digi-Key; ComponentLink6Description: https://datasheet.ciiva.com/156/mlcc-all-e-156078.pdf?src-supplier=Digi-Key
footprint C0402
pins: 1, 2
2 alternate drawings of the same symbol

## CAP_10u
designator C?, comment 10UF  Attr: 6.3V  Package: 0603
CAP,CER,MONO,10UF,20%,6.3V,0603; Manufacturer Part Number: GRM188R60J106ME47D; Part Number: 725-10-604; Supplier 1: Digi-Key; Supplier Part Number 1: 490-3896-1-ND
footprint C0603
footprint C0603
pins: 1, 2

## CAP_10u_0402
designator C?, comment 10uF
CAP CER 10UF 6.3V X5R 0402; Manufacturer: Murata; Manufacturer Part Number: GRM155R60J106ME15D; Tolerance: 20%; RoHS: Yes; Category: Ceramic Capacitors; Stock 1: 537975; Pricing 1: 1=0.25000, 10=0.17300, 100=0.08750, 500=0.05986, 1000=0.05295, 2500=0.05065, 5000=0.04605 (USD); Mount: Surface Mount; Case/Package: 0402; Case Code (Metric): 1005; Case Code (Imperial): 0402; Min Operating Temperature: -55°C; Max Operating Temperature: 85°C; Packaging: Tape and Reel; Capacitance: 10uF; Voltage Rating: 6.3V; Voltage Rating (DC): 6.3V; Dielectric: X5R; Length: 0.039inch; Width: 0.02inch; Thickness: 0.026inch; ComponentLink1URL: https://www.murata.com/~/media/webrenewal/support/library/catalog/products/capacitor/mlcc/c02e.ashx?la=en-us&src-supplier=Digi-Key; ComponentLink1Description: https://www.murata.com/~/media/webrenewal/support/library/catalog/products/capacitor/mlcc/c02e.ashx?la=en-us&src-supplier=Digi-Key; Stock 2: 1631784; Pricing 2: 1=0.25000, 10=0.17300, 100=0.08750, 500=0.05986, 1000=0.05295, 2500=0.05065, 5000=0.04605 (USD); Supplier 1: RSComponents; Supplier Part Number 1: 8467274
footprint C0402
footprint MURA-GRM155R60J106ME44D-2_N (Chip Capacitor, 2-Leads, Body 1.2x0.52mm, IPC Medium Density)
footprint MURA-GRM155R60J106ME44D-2_N (Chip Capacitor, 2-Leads, Body 1.2x0.52mm, IPC Medium Density)
footprint 0402_CAP
pins: 1, 2
2 alternate drawings of the same symbol

## CAP_12
designator C?, comment DNP
Not Normally Populated - use 0402 pads
footprint C0402
pins: 1, 2
2 alternate drawings of the same symbol

## CAP_13
designator C?, comment 270pF
Ceramic capacitor SMD 0402 270 pF 50 V 5 %; Manufacturer: Murata; Manufacturer Part Number: GRM1555C1H271JA01D; Tolerance: 5%; Dielectric: C0G; Voltage Rating: 50V; Temperature Coefficient: 30ppm/°C; Insulation Resistance: 10GR; Supplier 1: Digi-Key; Supplier Part Number 1: 490-1294-6-ND; RoHS: Yes; Category: Ceramic Capacitors; Stock 1: 309230; Pricing 1: 1=0.12000, 10=0.08200, 100=0.03850, 500=0.02700, 1000=0.02236, 2500=0.02081, 5000=0.01904 (USD); Mount: Surface Mount; Case/Package: 0402; Case Code (Metric): 1005; Case Code (Imperial): 0402; Material: Ceramic; Min Operating Temperature: -55°C; Max Operating Temperature: 125°C; Capacitance: 270pF; Packaging: Tape and Reel; Package Quantity: 1; Voltage Rating (DC): 50V; Termination: SMD/SMT; Voltage: 50V; Length: 1mm; Height: 0.5mm; Width: 0.02inch; Thickness: 0.022inch; Depth: 0.5mm; Radiation Hardening: No; REACH SVHC: No SVHC; Lead Free: Lead Free; ComponentLink1URL: https://datasheet.ciiva.com/19476/1856020-19476242.pdf?src-supplier=Jameco; ComponentLink1Description: https://datasheet.ciiva.com/19476/1856020-19476242.pdf?src-supplier=Jameco; ComponentLink2URL: https://datasheet.ciiva.com/18184/getdatasheetpartid-153032-18184285.pdf?src-supplier=Verical; ComponentLink2Description: https://datasheet.ciiva.com/18184/getdatasheetpartid-153032-18184285.pdf?src-supplier=Verical; ComponentLink3URL: https://datasheet.ciiva.com/29200/453739-da-01-en-vs-kondensator-0402-29200063.pdf?src-supplier=Conrad; ComponentLink3Description: https://datasheet.ciiva.com/29200/453739-da-01-en-vs-kondensator-0402-29200063.pdf?src-supplier=Conrad; ComponentLink4URL: https://datasheet.ciiva.com/2989/product-2989315.pdf?src-supplier=Avnet; ComponentLink4Description: https://datasheet.ciiva.com/2989/product-2989315.pdf?src-supplier=Avnet; ComponentLink5URL: https://datasheet.ciiva.com/14116/grmseries-tc-hitype-eng-14116869.pdf?src-supplier=Distrelec; ComponentLink5Description: https://datasheet.ciiva.com/14116/grmseries-tc-hitype-eng-14116869.pdf?src-supplier=Distrelec; ComponentLink6URL: https://datasheet.ciiva.com/131/partnumbering-e-01-131786.pdf?src-supplier=Digi-Key; ComponentLink6Description: https://datasheet.ciiva.com/131/partnumbering-e-01-131786.pdf?src-supplier=Digi-Key; ComponentLink7URL: https://datasheet.ciiva.com/16200/product-16200506.pdf?src-supplier=Future+Electronics; ComponentLink7Description: https://datasheet.ciiva.com/16200/product-16200506.pdf?src-supplier=Future+Electronics; ComponentLink8URL: https://datasheet.ciiva.com/131/partnumbering-e-01-131787.pdf?src-supplier=Digi-Key; ComponentLink8Description: https://datasheet.ciiva.com/131/partnumbering-e-01-131787.pdf?src-supplier=Digi-Key; ComponentLink9URL: https://datasheet.ciiva.com/131/partnumbering-e-01-131788.pdf?src-supplier=Digi-Key; ComponentLink9Description: https://datasheet.ciiva.com/131/partnumbering-e-01-131788.pdf?src-supplier=Digi-Key
footprint C0402
pins: 1, 2
2 alternate drawings of the same symbol

## CAP_14
designator C?, comment 3pF
CAP CER 3PF 50V C0G/NP0 0402; Manufacturer: Murata; Manufacturer Part Number: GJM1555C1H3R0WB01D; Dielectric: C0G; Supplier 1: Digi-Key; Supplier Part Number 1: 490-11211-1-ND; RoHS: Yes; Category: Ceramic Capacitors; Stock 1: 94805; Pricing 1: 1=0.30000, 10=0.20500, 100=0.11610, 500=0.08198, 1000=0.07173, 2500=0.06831, 5000=0.06319 (USD); Mount: Surface Mount; Case/Package: 0402; Case Code (Imperial): 0402; Case Code (Metric): 1005; Min Operating Temperature: -55°C; Max Operating Temperature: 125°C; Capacitance: 3pF; Package Quantity: 10000; Packaging: Tape and Reel; Voltage Rating: 50V; Voltage Rating (DC): 50V; Termination: SMD/SMT; Length: 1mm; Height: 0.5mm; Width: 0.5mm; Thickness: 0.022inch; Depth: 0.5mm; Radiation Hardening: No; ComponentLink1URL: http://www.mouser.com/ds/2/281/c02e-2905.pdf?src-supplier=Mouser; ComponentLink1Description: http://www.mouser.com/ds/2/281/c02e-2905.pdf?src-supplier=Mouser; ComponentLink2URL: http://search.murata.co.jp/Ceramy/image/img/PDF/ENG/GJM1555C1H3R0WB01.pdf?src-supplier=Avnet; ComponentLink2Description: http://search.murata.co.jp/Ceramy/image/img/PDF/ENG/GJM1555C1H3R0WB01.pdf?src-supplier=Avnet; ComponentLink3URL: http://components.arrow.com/part/dataview/46522145S277297N2606?src-supplier=Arrow; ComponentLink3Description: http://components.arrow.com/part/dataview/46522145S277297N2606?src-supplier=Arrow; ComponentLink4URL: http://search.murata.co.jp/Ceramy/image/img/A01X/G101/ENG/GJM1555C1H3R0WB01-01.pdf?src-supplier=Digi-Key; ComponentLink4Description: http://search.murata.co.jp/Ceramy/image/img/A01X/G101/ENG/GJM1555C1H3R0WB01-01.pdf?src-supplier=Digi-Key; ComponentLink5URL: http://search.murata.co.jp/Ceramy/image/img/A01X/partnumbering_e_01.pdf?src-supplier=Digi-Key; ComponentLink5Description: http://search.murata.co.jp/Ceramy/image/img/A01X/partnumbering_e_01.pdf?src-supplier=Digi-Key
footprint C0402
pins: 1, 2
2 alternate drawings of the same symbol

## CAP_15
designator C?, comment 15pF
Cap Ceramic 15pF 50V C0G 5% SMD 0402 125C Paper T/R; Manufacturer: Murata; Manufacturer Part Number: GJM1555C1H150JB01D; Temperature Coefficient: 30ppm/°C; Supplier 1: Digi-Key; Supplier Part Number 1: 490-3117-1-ND; RoHS: Yes; Category: Ceramic Capacitors; Stock 1: 349444; Pricing 1: 1=0.29000, 10=0.19700, 100=0.10000, 500=0.06842, 1000=0.06052, 2500=0.05789, 5000=0.05262 (USD); Mount: Surface Mount; Case/Package: 0402; Number of Pins: 2; Case Code (Imperial): 0402; Case Code (Metric): 1005; Min Operating Temperature: -55°C; Max Operating Temperature: 125°C; Capacitance: 15pF; Tolerance: 5%; Dielectric: C0G; Packaging: Tape and Reel; Package Quantity: 1; Voltage Rating: 50V; Termination: SMD/SMT; Voltage: 50V; Voltage Rating (DC): 50V; Length: 1mm; Height: 0.5mm; Width: 0.02inch; Thickness: 0.022inch; Depth: 0.5mm; Lead Pitch: 0.3mm; Radiation Hardening: No; REACH SVHC: No SVHC; Lead Free: Lead Free; ComponentLink1URL: https://datasheet.ciiva.com/18183/getdatasheetpartid-255169-18183809.pdf?src-supplier=Verical; ComponentLink1Description: https://datasheet.ciiva.com/18183/getdatasheetpartid-255169-18183809.pdf?src-supplier=Verical; ComponentLink2URL: https://datasheet.ciiva.com/132/product-132373.pdf?src-supplier=Digi-Key; ComponentLink2Description: https://datasheet.ciiva.com/132/product-132373.pdf?src-supplier=Digi-Key; ComponentLink3URL: https://datasheet.ciiva.com/5694/1700182-5694965.pdf?src-supplier=Farnell; ComponentLink3Description: https://datasheet.ciiva.com/5694/1700182-5694965.pdf?src-supplier=Farnell; ComponentLink4URL: https://datasheet.ciiva.com/132/partnumbering-e-01-132374.pdf?src-supplier=Digi-Key; ComponentLink4Description: https://datasheet.ciiva.com/132/partnumbering-e-01-132374.pdf?src-supplier=Digi-Key; ComponentLink5URL: https://datasheet.ciiva.com/132/partnumbering-e-01-132375.pdf?src-supplier=Digi-Key; ComponentLink5Description: https://datasheet.ciiva.com/132/partnumbering-e-01-132375.pdf?src-supplier=Digi-Key; ComponentLink6URL: https://datasheet.ciiva.com/16426/l0005e-16426759.pdf?src-supplier=Future+Electronics; ComponentLink6Description: https://datasheet.ciiva.com/16426/l0005e-16426759.pdf?src-supplier=Future+Electronics; ComponentLink7URL: https://datasheet.ciiva.com/17453/product-17453468.pdf?src-supplier=Avnet+Europe; ComponentLink7Description: https://datasheet.ciiva.com/17453/product-17453468.pdf?src-supplier=Avnet+Europe; ComponentLink8URL: https://datasheet.ciiva.com/8030/1303334-8030095.pdf?src-supplier=Element14; ComponentLink8Description: https://datasheet.ciiva.com/8030/1303334-8030095.pdf?src-supplier=Element14
footprint C0402
pins: 1, 2
2 alternate drawings of the same symbol

## CAP_15p
designator C?, comment 15p
CAP CER 15pF 50V 5% 0402; Manufacturer Part Number: 04025A150JAT2A; ComponentLink1URL: https://datasheet.ciiva.com/30084/dumk-e-30084952.pdf?src-supplier=Onlinecomponents.com; ComponentLink1Description: https://datasheet.ciiva.com/30084/dumk-e-30084952.pdf?src-supplier=Onlinecomponents.com; ComponentLink2URL: https://datasheet.ciiva.com/129/standardmultilayerceramiccaps-129801.pdf?src-supplier=Digi-Key; ComponentLink2Description: https://datasheet.ciiva.com/129/standardmultilayerceramiccaps-129801.pdf?src-supplier=Digi-Key; ComponentLink3URL: https://datasheet.ciiva.com/129/standardmultilayerceramiccaps-129802.pdf?src-supplier=Digi-Key; ComponentLink3Description: https://datasheet.ciiva.com/129/standardmultilayerceramiccaps-129802.pdf?src-supplier=Digi-Key; ComponentLink4URL: https://datasheet.ciiva.com/129/standardmultilayerceramiccaps-129803.pdf?src-supplier=Digi-Key; ComponentLink4Description: https://datasheet.ciiva.com/129/standardmultilayerceramiccaps-129803.pdf?src-supplier=Digi-Key; ComponentLink5URL: https://datasheet.ciiva.com/15922/dumk-e-15922540.pdf?src-supplier=Onlinecomponents.com; ComponentLink5Description: https://datasheet.ciiva.com/15922/dumk-e-15922540.pdf?src-supplier=Onlinecomponents.com; Supplier 1: Digi-Key; Supplier Part Number 1: 478-1072-1-ND
footprint C0402
footprint 0402_cap
pins: 1, 2
2 alternate drawings of the same symbol

## CAP_16
designator C?, comment 10nF
MURATA   GRM155R71C103KA01D   Multilayer Ceramic Capacitor, GRM Series, 0.01 F,  10%, X7R, 16 V, 0402 [1005 Metric]; Voltage Rating: 16V; Supplier 1: Digi-Key; Supplier Part Number 1: 490-1313-1-ND; Manufacturer: Murata; Manufacturer Part Number: GRM155R71C103KA01D; RoHS: Yes; Category: Ceramic Capacitors; Stock 1: 8809667; Pricing 1: 1=0.10000, 10=0.02700, 100=0.01210, 500=0.00862, 1000=0.00678, 2500=0.00616, 5000=0.00567 (USD); Mount: Surface Mount; Case/Package: 0402; Number of Pins: 2; Case Code (Metric): 1005; Case Code (Imperial): 0402; Min Operating Temperature: -55°C; Max Operating Temperature: 125°C; Capacitance: 10nF; Tolerance: 10%; Dielectric: X7R; Package Quantity: 1; Packaging: Tape and Reel; Voltage Rating (DC): 16V; Termination: SMD/SMT; Voltage: 16V; Length: 1mm; Height: 0.5mm; Width: 0.02inch; Thickness: 0.022inch; Depth: 0.5mm; Radiation Hardening: No; REACH SVHC: No SVHC; Lead Free: Lead Free; ComponentLink1URL: https://datasheet.ciiva.com/129/product-129776.pdf?src-supplier=Digi-Key; ComponentLink1Description: https://datasheet.ciiva.com/129/product-129776.pdf?src-supplier=Digi-Key; ComponentLink2URL: https://datasheet.ciiva.com/18184/getdatasheetpartid-178863-18184649.pdf?src-supplier=Verical; ComponentLink2Description: https://datasheet.ciiva.com/18184/getdatasheetpartid-178863-18184649.pdf?src-supplier=Verical; ComponentLink3URL: https://datasheet.ciiva.com/129/partnumbering-e-01-129774.pdf?src-supplier=Digi-Key; ComponentLink3Description: https://datasheet.ciiva.com/129/partnumbering-e-01-129774.pdf?src-supplier=Digi-Key; ComponentLink4URL: https://datasheet.ciiva.com/129/partnumbering-e-01-129775.pdf?src-supplier=Digi-Key; ComponentLink4Description: https://datasheet.ciiva.com/129/partnumbering-e-01-129775.pdf?src-supplier=Digi-Key; ComponentLink5URL: https://datasheet.ciiva.com/7937/608985-7937614.pdf?src-supplier=Element14; ComponentLink5Description: https://datasheet.ciiva.com/7937/608985-7937614.pdf?src-supplier=Element14; ComponentLink6URL: https://datasheet.ciiva.com/22698/608985-22698415.pdf?src-supplier=Element14; ComponentLink6Description: https://datasheet.ciiva.com/22698/608985-22698415.pdf?src-supplier=Element14
footprint C0402
pins: 1, 2
2 alternate drawings of the same symbol

## CAP_17
designator C?, comment 100pF
Multilayer Ceramic Capacitors MLCC - SMD/SMT 0603 250volt 100pF C0G 5%; Manufacturer: Murata; Manufacturer Part Number: GQM1875C2E101JB12D; Voltage Rating: 250V; Supplier 1: Digi-Key; Supplier Part Number 1: 490-7173-1-ND; RoHS: Yes; Category: Ceramic Capacitors; Stock 1: 64136; Pricing 1: 1=0.68000, 10=0.48000, 100=0.31590, 500=0.23404, 1000=0.19893 (USD); Mount: Surface Mount; Case/Package: 0603; Case Code (Metric): 1608; Case Code (Imperial): 0603; Min Operating Temperature: -55°C; Max Operating Temperature: 125°C; Package Quantity: 4000; Packaging: Tape and Reel; Capacitance: 100pF; Tolerance: 5%; Voltage Rating (DC): 250V; Dielectric: C0G; Termination: SMD/SMT; Length: 1.6mm; Width: 0.031inch; Thickness: 0.031inch; Depth: 0.8mm; Lead Free: Lead Free; ComponentLink1URL: https://datasheet.ciiva.com/13189/product-13189451.pdf?src-supplier=Mouser; ComponentLink1Description: https://datasheet.ciiva.com/13189/product-13189451.pdf?src-supplier=Mouser; ComponentLink2URL: https://datasheet.ciiva.com/14890/partnumbering-e-01-14890453.pdf?src-supplier=Digi-Key; ComponentLink2Description: https://datasheet.ciiva.com/14890/partnumbering-e-01-14890453.pdf?src-supplier=Digi-Key
footprint C0402
footprint 0603_cap
pins: 1, 2
2 alternate drawings of the same symbol

## CAP_18
designator C?, comment 22uF
CAP TANT 22UF 10% 10V 1411; Manufacturer: Kyocera AVX; Manufacturer Part Number: TAJB226K010RNJ; Dielectric Material: Tantalum; ESR (Equivalent Series Resistance): 2.4R; Leakage Current: 2.2uA; Polarity: Polar; Dissipation Factor: 6%; Supplier 1: Digi-Key; Supplier Part Number 1: 478-3039-1-ND; RoHS: Yes; Category: Tantalum Capacitors; Stock 1: 64144; Pricing 1: 1=0.48000, 10=0.33400, 100=0.20010, 500=0.15008, 1000=0.12673 (USD); Mount: Surface Mount,PCB; Case/Package: 1210; Number of Pins: 2; Case Code (Imperial): 1210; Case Code (Metric): 3528; Min Operating Temperature: -55°C; Max Operating Temperature: 125°C; Capacitance: 22uF; Tolerance: 10%; Voltage Rating: 10V; Voltage Rating (DC): 10V; Package Quantity: 1; Packaging: Tape and Reel; Termination: SMD/SMT; Voltage: 10V; Features: General Purpose; Length: 3.5mm; Height: 1.9mm; Depth: 2.8mm; Width: 2.8mm; Height - Seated (Max): 0.083inch; Radiation Hardening: No; REACH SVHC: No SVHC; Lead Free: Lead Free; ComponentLink1URL: https://datasheet.ciiva.com/11793/0900766b80ccdc61-11793177.pdf?src-supplier=RSComponents; ComponentLink1Description: https://datasheet.ciiva.com/11793/0900766b80ccdc61-11793177.pdf?src-supplier=RSComponents; ComponentLink2URL: https://datasheet.ciiva.com/26787/tajb226k010rnj-26787064.pdf?src-supplier=IIIC; ComponentLink2Description: https://datasheet.ciiva.com/26787/tajb226k010rnj-26787064.pdf?src-supplier=IIIC; ComponentLink3URL: https://datasheet.ciiva.com/26341/559431-da-01-en-tacc-b-3-2-mm-x-2-5-mm-x-1-9-mm-22-uf-26341774.pdf?src-supplier=Conrad; ComponentLink3Description: https://datasheet.ciiva.com/26341/559431-da-01-en-tacc-b-3-2-mm-x-2-5-mm-x-1-9-mm-22-uf-26341774.pdf?src-supplier=Conrad; ComponentLink4URL: https://datasheet.ciiva.com/263/taj-263619.pdf?src-supplier=Digi-Key; ComponentLink4Description: https://datasheet.ciiva.com/263/taj-263619.pdf?src-supplier=Digi-Key; ComponentLink5URL: https://datasheet.ciiva.com/263/taj-263620.pdf?src-supplier=Digi-Key; ComponentLink5Description: https://datasheet.ciiva.com/263/taj-263620.pdf?src-supplier=Digi-Key; ComponentLink6URL: https://datasheet.ciiva.com/263/taj-263621.pdf?src-supplier=Digi-Key; ComponentLink6Description: https://datasheet.ciiva.com/263/taj-263621.pdf?src-supplier=Digi-Key; ComponentLink7URL: https://datasheet.ciiva.com/7762/taj-7762709.pdf?src-supplier=Element14; ComponentLink7Description: https://datasheet.ciiva.com/7762/taj-7762709.pdf?src-supplier=Element14; ComponentLink8URL: https://datasheet.ciiva.com/7762/taj-7762710.pdf?src-supplier=Element14; ComponentLink8Description: https://datasheet.ciiva.com/7762/taj-7762710.pdf?src-supplier=Element14; ComponentLink9URL: https://datasheet.ciiva.com/11221/taj-11221224.pdf?src-supplier=Avnet; ComponentLink9Description: https://datasheet.ciiva.com/11221/taj-11221224.pdf?src-supplier=Avnet; ComponentLink10URL: https://datasheet.ciiva.com/18710/taj-eng-18710632.pdf?src-supplier=Distrelec; ComponentLink10Description: https://datasheet.ciiva.com/18710/taj-eng-18710632.pdf?src-supplier=Distrelec; ComponentLink11URL: https://datasheet.ciiva.com/14608/70001050-14608057.pdf?src-supplier=Allied+Electronics; ComponentLink11Description: https://datasheet.ciiva.com/14608/70001050-14608057.pdf?src-supplier=Allied+Electronics; ComponentLink12URL: https://datasheet.ciiva.com/16492/taj-16492858.pdf?src-supplier=Future+Electronics; ComponentLink12Description: https://datasheet.ciiva.com/16492/taj-16492858.pdf?src-supplier=Future+Electronics; ComponentLink13URL: https://datasheet.ciiva.com/3004/taj-3004446.pdf?src-supplier=Avnet; ComponentLink13Description: https://datasheet.ciiva.com/3004/taj-3004446.pdf?src-supplier=Avnet
footprint C0402
footprint 1210_cap
pins: 1, 2
2 alternate drawings of the same symbol

## CAP_19
designator C?, comment 3.3pF
CAP CER 3.3PF 50V C0G/NP0 0402; Manufacturer: Murata; Manufacturer Part Number: GJM1555C1H3R3CB01D; Dielectric: C0G; Supplier 1: Digi-Key; Supplier Part Number 1: 490-3095-1-ND; RoHS: Yes; Category: Ceramic Capacitors; Stock 1: 267; Pricing 1: 1=0.12000, 10=0.08200, 100=0.03850, 500=0.02700, 1000=0.02236, 2500=0.02081, 5000=0.01904 (USD); Mount: Surface Mount; Case/Package: 0402; Case Code (Imperial): 0402; Case Code (Metric): 1005; Min Operating Temperature: -55°C; Max Operating Temperature: 125°C; Capacitance: 3.3pF; Package Quantity: 1; Packaging: Tape and Reel; Voltage Rating: 50V; Voltage Rating (DC): 50V; Termination: SMD/SMT; Voltage: 50V; Length: 1mm; Height: 0.5mm; Width: 0.5mm; Thickness: 0.022inch; Depth: 0.5mm; Radiation Hardening: No; Lead Free: Lead Free; ComponentLink1URL: https://datasheet.ciiva.com/17453/product-17453499.pdf?src-supplier=Avnet+Europe; ComponentLink1Description: https://datasheet.ciiva.com/17453/product-17453499.pdf?src-supplier=Avnet+Europe; ComponentLink2URL: https://datasheet.ciiva.com/18183/getdatasheetpartid-137633-18183838.pdf?src-supplier=Verical; ComponentLink2Description: https://datasheet.ciiva.com/18183/getdatasheetpartid-137633-18183838.pdf?src-supplier=Verical; ComponentLink3URL: https://datasheet.ciiva.com/16218/l0005e-16218053.pdf?src-supplier=Future+Electronics; ComponentLink3Description: https://datasheet.ciiva.com/16218/l0005e-16218053.pdf?src-supplier=Future+Electronics; ComponentLink4URL: https://datasheet.ciiva.com/132/partnumbering-e-01-132445.pdf?src-supplier=Digi-Key; ComponentLink4Description: https://datasheet.ciiva.com/132/partnumbering-e-01-132445.pdf?src-supplier=Digi-Key; ComponentLink5URL: https://datasheet.ciiva.com/132/partnumbering-e-01-132446.pdf?src-supplier=Digi-Key; ComponentLink5Description: https://datasheet.ciiva.com/132/partnumbering-e-01-132446.pdf?src-supplier=Digi-Key; ComponentLink6URL: https://datasheet.ciiva.com/132/partnumbering-e-01-132447.pdf?src-supplier=Digi-Key; ComponentLink6Description: https://datasheet.ciiva.com/132/partnumbering-e-01-132447.pdf?src-supplier=Digi-Key
footprint C0402
pins: 1, 2
2 alternate drawings of the same symbol